# EAGLE library part TPS62147RGXT (library TPS62147RGXT)
3-17V 2.0A Step-Down Converter with 1% accuracy and PFM/Forced-PWM in 2x3QFN Source: Datasheet <http://www.ti.com/lit/gpn/TPS62147>
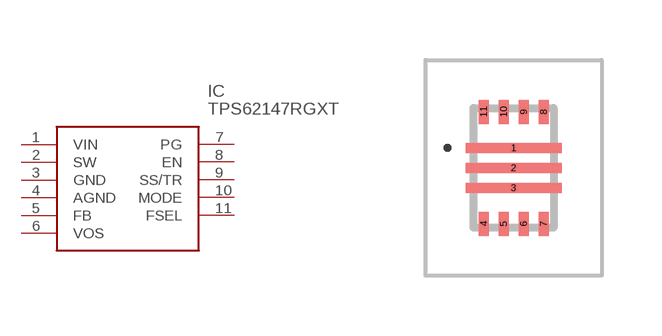
[diagram p0: symbol with the pads of TPS62147RGXT; footprint TPS62147RGXT]

Designator prefix IC

## TPS62147RGXT (Description: 3-17V 2.0A Step-Down Converter with 1% accuracy and PFM/Forced-PWM in 2x3QFN; Height: 1mm; Manufacturer_Name: Texas Instruments; Manufacturer_Part_Number: TPS62147RGXT; Mouser_Part_Number: 595-TPS62147RGXT; Mouser_Price-Stock: https://www.mouser.co.uk/ProductDetail/Texas-Instruments/TPS62147RGXT?qs=55YtniHzbhA45fnTDB2zbg%3D%3D)  [TPS62147RGXT]
1  VIN
2  SW
3  GND
4  AGND
5  FB
6  VOS
7  PG
8  EN
9  SS/TR
10  MODE
11  FSEL

## Footprint TPS62147RGXT (pad centres in mm)
TPS62147RGXT-3
smd 2.4 x 0.25: 1 0,0.5; 2 0,0; 3 0,-0.5
smd 0.25 x 0.6: 4 -0.75,-1.4; 5 -0.25,-1.4; 6 0.25,-1.4; 7 0.75,-1.4; 8 0.75,1.4; 9 0.25,1.4; 10 -0.25,1.4; 11 -0.75,1.4